# Altium footprint library MainShunt.PcbLib: 17 footprints (part 1 of 2)
Each footprint in its own frame and in the unit in brackets; x right, y up, seen from the top. Pads: shape width x height; smd on the part's side, far side on the other; paste and mask are expansions set on the pad; w line width, h text height; cw(c..) or ccw(c..) is an arc to the next point about the centre after c.
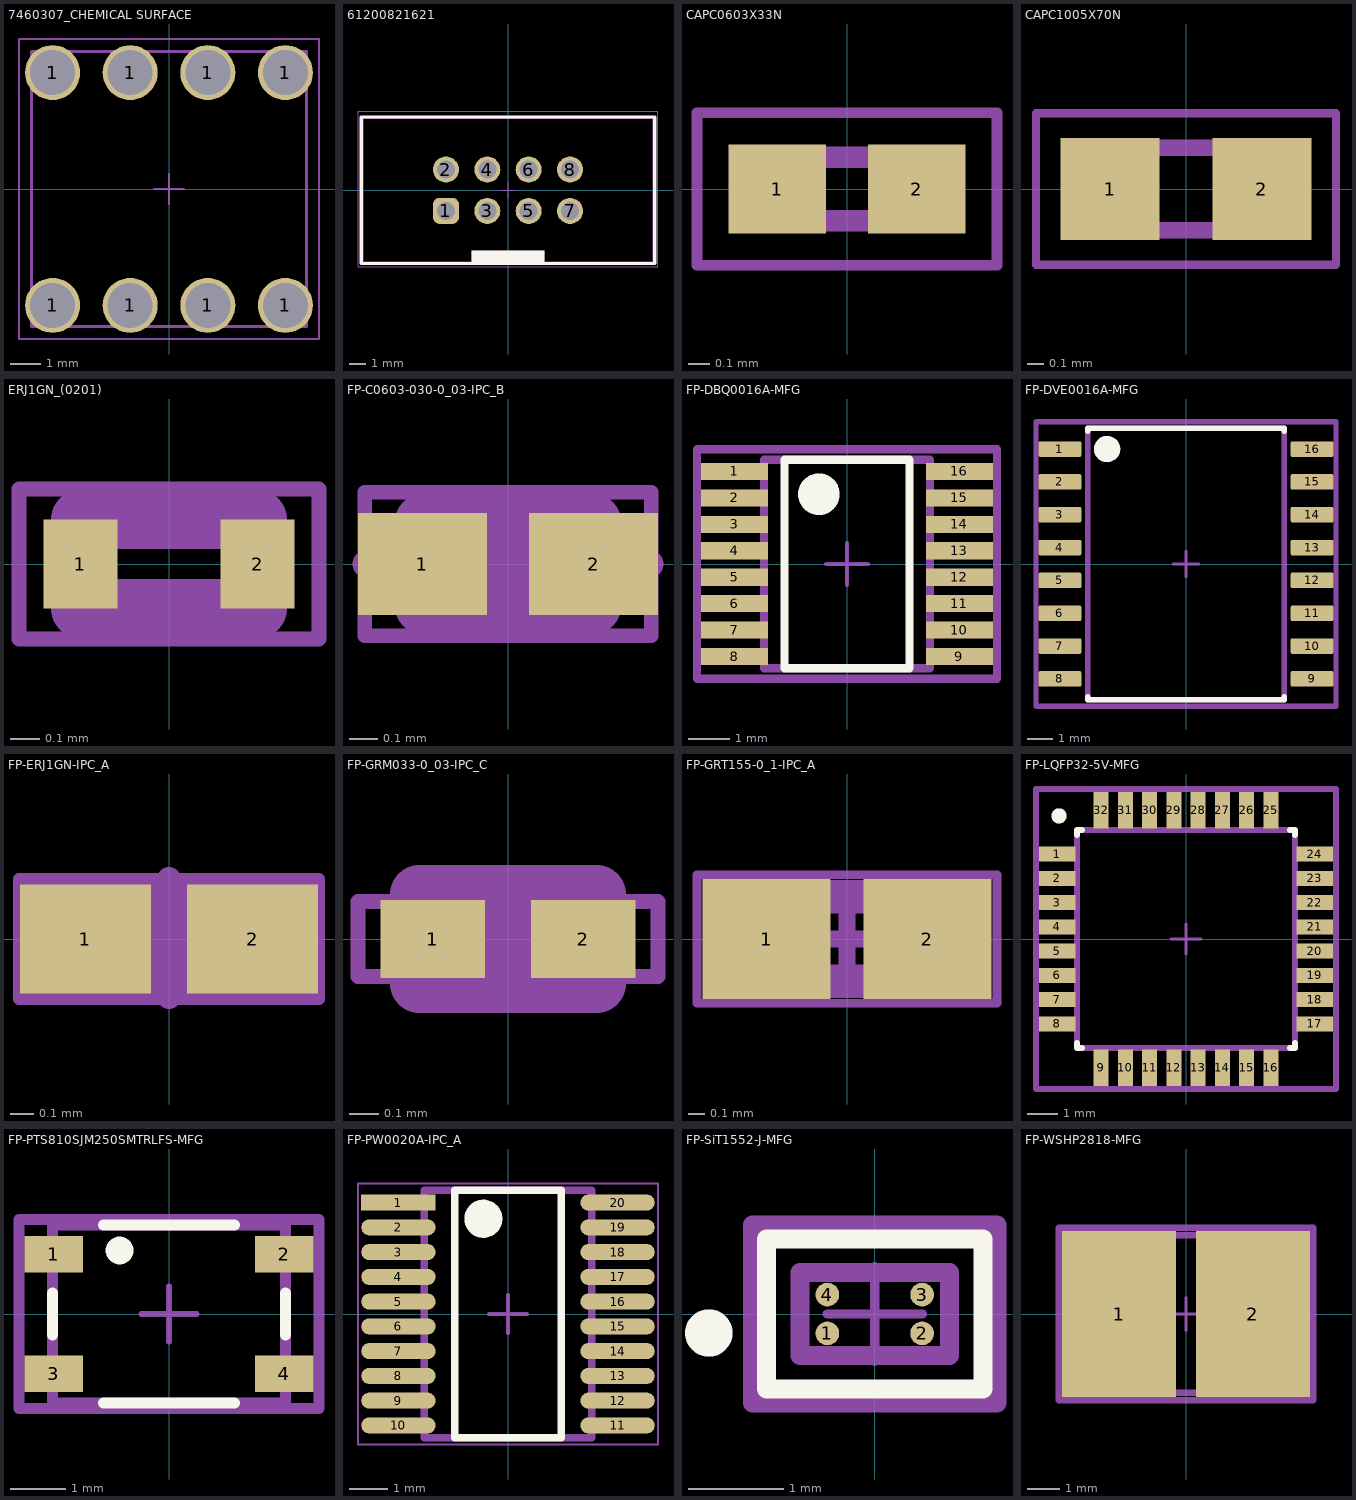
[diagram p0: the footprints below, top view; thin cyan lines are the x and y axes]

## 7460307_CHEMICAL SURFACE [mm] "WP-BUTR Bushes with two Rows Pin-Plate, M4, blind thr 6mm"
height 7
pads (8):
  round 1.8 hole 1.475: 1(-3.81,-3.81) 1(-3.81,3.81) 1(-1.27,-3.81) 1(-1.27,3.81) 1(1.27,-3.81) 1(1.27,3.81) 1(3.81,-3.81) 1(3.81,3.81)
Top Designator:
  text ".Designator" at -7.498,-0.5 h1.5
Top Component Outline:
  lines w0.1: -4.5,-4.5 -4.5,4.5 4.5,4.5 4.5,-4.5 -4.5,-4.5
Top 3D Body:
  lines w0.1: -4.5,-4.5 -4.5,4.5 4.5,4.5 4.5,-4.5 -4.5,-4.5
Top Courtyard:
  lines w0.05: -0.5,0 0.5,0 ; 0,-0.5 0,0.5 ; -4.91,-4.91 4.91,-4.91 4.91,4.91 -4.91,4.91 -4.91,-4.91
3D body "7460307.stp": height 7, standoff -3.5, extent -4.5,-4.5 4.5,4.5

## 61200821621 [mm] "8 pins, straight, gold plating"
height 9.1
pads (8):
  rrect50% 1.6x1.6 hole 1.1: 1(-3.81,-1.27)
  round 1.6 hole 1.1: 2(-3.81,1.27) 3(-1.27,-1.27) 4(-1.27,1.27) 5(1.27,-1.27) 6(1.27,1.27) 7(3.81,-1.27) 8(3.81,1.27)
Top Overlay:
  rectangle: -2.25,-4.5 2.25,-3.7
  lines w0.2: -9.01,-4.5 -9.01,4.5 9.01,4.5 9.01,-4.5 -9.01,-4.5
Top Designator:
  text ".Designator" at -7.498,-0.5 h1.5
Top Component Outline:
  rectangle: -2.25,-4.425 2.25,-3.7
  lines w0.1: -8.91,-4.425 8.91,-4.425 8.91,4.425 -8.91,4.425 -8.91,-4.425
Top 3D Body:
  rectangle: -2.25,-4.425 2.25,-3.7
  lines w0.1: -8.91,-4.425 -8.91,4.425 8.91,4.425 8.91,-4.425 -8.91,-4.425
Top Courtyard:
  lines w0.05: -0.5,0 0.5,0 ; 0,-0.5 0,0.5 ; -9.21,-4.7 -9.21,4.85 9.21,4.85 9.21,-4.7 -9.21,-4.7
3D body "61200821621.stp": height 9.13, standoff -2.98, extent -8.91,-4.425 8.91,4.75

## CAPC0603X33N [mm]
height 2.95
pads (2):
  rect 0.46x0.42 smd: 1(-0.33,0) 2(0.33,0)
Top 3D Body:
  lines w0.1: -0.3,-0.15 -0.3,0.15 0.3,0.15 0.3,-0.15 -0.3,-0.15
Top Courtyard:
  lines w0.05: -0.71,-0.36 -0.71,0.36 0.71,0.36 0.71,-0.36 -0.71,-0.36
3D body "GRM033C81E104KE14D.stp": height 0.33, standoff 0, extent -0.3,-0.15 0.3,0.15

## CAPC1005X70N [mm]
height 2.95
pads (2):
  rect 0.6x0.62 smd: 1(-0.46,0) 2(0.46,0)
Top 3D Body:
  lines w0.1: -0.5,-0.25 -0.5,0.25 0.5,0.25 0.5,-0.25 -0.5,-0.25
Top Courtyard:
  lines w0.05: -0.91,-0.46 -0.91,0.46 0.91,0.46 0.91,-0.46 -0.91,-0.46
3D body "GRM155F51E104ZA01D.stp": height 0.5, standoff 0, extent -0.5,-0.25 0.5,0.25

## ERJ1GN_(0201) [mm]
height 2.95
pads (2):
  rect 0.25x0.3 smd: 1(-0.3,0) 2(0.3,0)
Top 3D Body:
  lines w0.2: -0.3,-0.15 0.3,-0.15 0.3,0.15 -0.3,0.15 -0.3,-0.15
Top Courtyard:
  lines w0.05: -0.508,-0.254 -0.508,0.254 0.508,0.254 0.508,-0.254 -0.508,-0.254
3D body "ERJ-1GNF1001C.stp": height 0.23, standoff 0, extent -0.3,-0.15 0.3,0.15

## FP-C0603-030-0_03-IPC_B [mm]
height 2.95
pads (2):
  rect 0.456x0.363 smd paste+0 mask+0: 1(-0.303,0) 2(0.303,0)
Top Assembly:
  lines w0.051: -0.508,-0.254 -0.508,0.254 0.508,0.254 0.508,-0.254 -0.508,-0.254
  text ".Designator" at 0,0.188 h1
Top 3D Body:
  lines w0.2: -0.3,-0.15 -0.3,0.15 0.3,0.15 0.3,-0.15 -0.3,-0.15
Top Courtyard:
  lines w0.051: -0.508,-0.254 -0.508,0.254 0.508,0.254 0.508,-0.254 -0.508,-0.254
Top Component Center:
  lines w0.1: -0.5,0 0.5,0 ; 0,-0.127 0,0.127
3D body "Cap_TDK_C0603X6S0G474M030BC_eec.STEP": height 0.25, standoff 0, extent -0.681,-0.331 0.681,0.331

## FP-DBQ0016A-MFG [mm]
height 2.95
pads (16):
  rect 1.6x0.41 smd paste+0 mask+0: 1(-2.7,2.222) 2(-2.7,1.587) 3(-2.7,0.953) 4(-2.7,0.318) 5(-2.7,-0.318) 6(-2.7,-0.953) 7(-2.7,-1.587) 8(-2.7,-2.222) 9(2.7,-2.222) 10(2.7,-1.587) 11(2.7,-0.953) 12(2.7,-0.318) 13(2.7,0.318) 14(2.7,0.953) 15(2.7,1.587) 16(2.7,2.222)
Top Overlay:
  circle w0.5: c-0.675,1.675 r0.25
  lines w0.2: -1.5,-2.5 1.5,-2.5 1.5,2.5 -1.5,2.5 -1.5,-2.5
Top Assembly:
  lines w0.2: -3.6,-2.752 3.6,-2.752 3.6,2.752 -3.6,2.752 -3.6,-2.752
  text ".Designator" at 0,0.188 h1
Top 3D Body:
  lines w0.2: -1.99,-2.5 1.99,-2.5 1.99,2.5 -1.99,2.5 -1.99,-2.5
Top Courtyard:
  lines w0.2: -3.6,-2.752 3.6,-2.752 3.6,2.752 -3.6,2.752 -3.6,-2.752
Top Component Center:
  lines w0.1: -0.5,0 0.5,0 ; 0,-0.5 0,0.5
3D body "IC_Texas_Instruments_ISO1212DBQR_eec.STEP": height 0.25, standoff 0, extent -3.6,-2.752 3.6,2.752

## FP-DVE0016A-MFG [mm]
height 2.95
pads (16):
  rrect17% 1.65x0.6 smd paste+0 mask+0: 1(-4.875,4.445) 2(-4.875,3.175) 3(-4.875,1.905) 4(-4.875,0.635) 5(-4.875,-0.635) 6(-4.875,-1.905) 7(-4.875,-3.175) 8(-4.875,-4.445) 9(4.875,-4.445) 10(4.875,-3.175) 11(4.875,-1.905) 12(4.875,-0.635) 13(4.875,0.635) 14(4.875,1.905) 15(4.875,3.175) 16(4.875,4.445)
Top Overlay:
  circle w0.508: c-3.048,4.445 r0.254
  lines w0.2: -3.8,-5.12 -3.8,-5.25 3.8,-5.25 3.8,-5.12 ; -3.8,5.12 -3.8,5.25 3.8,5.25 3.8,5.12
Top Assembly:
  lines w0.2: -5.8,-5.5 5.8,-5.5 5.8,5.5 -5.8,5.5 -5.8,-5.5
  text ".Designator" at 0,0.188 h1
Top 3D Body:
  lines w0.2: -3.8,-5.25 3.8,-5.25 3.8,5.25 -3.8,5.25 -3.8,-5.25
Top Courtyard:
  lines w0.2: -5.8,-5.5 5.8,-5.5 5.8,5.5 -5.8,5.5 -5.8,-5.5
Top Component Center:
  lines w0.1: -0.5,0 0.5,0 ; 0,-0.5 0,0.5
3D body "IC_Texas_Instruments_UCC12040DVER_eec.STEP": height 0.25, standoff 0, extent -5.8,-5.5 5.8,5.5

## FP-ERJ1GN-IPC_A [mm]
height 2.95
pads (2):
  rect 0.554x0.463 smd paste+0 mask+0: 1(-0.354,0) 2(0.354,0)
Top Assembly:
  lines w0.051: -0.635,-0.254 -0.635,0.254 0.635,0.254 0.635,-0.254 -0.635,-0.254
  text ".Designator" at 0,-0.001 h1
Top 3D Body:
  lines w0.2: -0.3,-0.15 -0.3,0.15 0.3,0.15 0.3,-0.15 -0.3,-0.15
Top Courtyard:
  lines w0.051: -0.635,-0.254 -0.635,0.254 0.635,0.254 0.635,-0.254 -0.635,-0.254
Top Component Center:
  lines w0.1: 0,0.127 0,-0.246 0,0.254 ; -0.5,0 0.5,0 -0.5,0
3D body "Res_Panasonic_Electronic_Components_ERJ-1GNF4872C_eec.STEP": height 0.25, standoff 0, extent -0.831,-0.431 0.831,0.431

## FP-GRM033-0_03-IPC_C [mm]
height 2.95
pads (2):
  rect 0.354x0.263 smd paste+0 mask+0: 1(-0.254,0) 2(0.254,0)
Top Assembly:
  lines w0.051: -0.508,-0.127 -0.508,0.127 0.508,0.127 0.508,-0.127 -0.508,-0.127
  text ".Designator" at 0,0.188 h1
Top 3D Body:
  lines w0.2: -0.3,-0.15 -0.3,0.15 0.3,0.15 0.3,-0.15 -0.3,-0.15
Top Courtyard:
  lines w0.051: -0.508,-0.127 -0.508,0.127 0.508,0.127 0.508,-0.127 -0.508,-0.127
Top Component Center:
  lines w0.1: -0.254,0 0.254,0 ; 0,-0.127 0,0.127
3D body "Cap_Murata_GRM0335C1HR30BA01D_eec.STEP": height 0.25, standoff 0, extent -0.531,-0.265 0.531,0.265

## FP-GRT155-0_1-IPC_A [mm]
height 2.95
pads (2):
  rect 0.76x0.712 smd paste+0 mask+0: 1(-0.476,0) 2(0.476,0)
Top Assembly:
  lines w0.051: -0.889,-0.381 -0.889,0.381 0.889,0.381 0.889,-0.381 -0.889,-0.381
  text ".Designator" at 0,0.188 h1
Top 3D Body:
  lines w0.2: -0.5,-0.25 -0.5,0.25 0.5,0.25 0.5,-0.25 -0.5,-0.25
Top Courtyard:
  lines w0.051: -0.889,-0.381 -0.889,0.381 0.889,0.381 0.889,-0.381 -0.889,-0.381
Top Component Center:
  lines w0.1: -0.5,0 0.5,0 ; 0,-0.254 0,0.254
3D body "Cap_Murata_GRT155R60J475ME13D_eec.STEP": height 0.25, standoff 0, extent -1.056,-0.556 1.056,0.556

## FP-LQFP32-5V-MFG [mm]
height 2.95
pads (32):
  rect 1.2x0.5 smd paste+0 mask+0: 1(-4.25,2.8) 2(-4.25,2) 3(-4.25,1.2) 4(-4.25,0.4) 5(-4.25,-0.4) 6(-4.25,-1.2) 7(-4.25,-2) 8(-4.25,-2.8) 17(4.25,-2.8) 18(4.25,-2) 19(4.25,-1.2) 20(4.25,-0.4) 21(4.25,0.4) 22(4.25,1.2) 23(4.25,2) 24(4.25,2.8)
  rect 0.5x1.2 smd paste+0 mask+0: 9(-2.8,-4.25) 10(-2,-4.25) 11(-1.2,-4.25) 12(-0.4,-4.25) 13(0.4,-4.25) 14(1.2,-4.25) 15(2,-4.25) 16(2.8,-4.25) 25(2.8,4.25) 26(2,4.25) 27(1.2,4.25) 28(0.4,4.25) 29(-0.4,4.25) 30(-1.2,4.25) 31(-2,4.25) 32(-2.8,4.25)
Top Overlay:
  circle w0.25: c-4.191,4.064 r0.125
  lines w0.2: -3.6,-3.425 -3.6,-3.6 -3.425,-3.6 ; -3.6,3.425 -3.6,3.6 -3.425,3.6 ; 3.425,-3.6 3.6,-3.6 3.6,-3.425 ; 3.425,3.6 3.6,3.6 3.6,3.425
Top Assembly:
  lines w0.2: -4.95,-4.95 -4.95,4.95 4.95,4.95 4.95,-4.95 -4.95,-4.95
  text ".Designator" at 0,0.188 h1
Top 3D Body:
  lines w0.2: -3.6,-3.6 -3.6,3.6 3.6,3.6 3.6,-3.6 -3.6,-3.6
Top Courtyard:
  lines w0.2: -4.95,-4.95 -4.95,4.95 4.95,4.95 4.95,-4.95 -4.95,-4.95
Top Component Center:
  lines w0.1: -0.5,0 0.5,0 ; 0,-0.5 0,0.5
3D body "IC_STMicroelectronics_STM32L010K4T6_eec.STEP": height 0.25, standoff 0, extent -4.95,-4.95 4.95,4.95

## FP-PTS810SJM250SMTRLFS-MFG [mm]
height 2.95
pads (4):
  rect 1.05x0.65 smd paste+0 mask+0: 1(-2.075,1.075) 2(2.075,1.075) 3(-2.075,-1.075) 4(2.075,-1.075)
Top Overlay:
  circle w0.25: c-0.889,1.143 r0.125
  lines w0.2: -2.1,-0.375 -2.1,0.375 ; -1.175,-1.6 1.175,-1.6 ; -1.175,1.6 1.175,1.6 ; 2.1,-0.375 2.1,0.375
Top Assembly:
  lines w0.2: -2.7,-1.7 2.7,-1.7 2.7,1.7 -2.7,1.7 -2.7,-1.7
  text ".Designator" at 0,0.188 h1
Top 3D Body:
  lines w0.2: -2.1,-1.6 2.1,-1.6 2.1,1.6 -2.1,1.6 -2.1,-1.6
Top Courtyard:
  lines w0.2: -2.7,-1.7 2.7,-1.7 2.7,1.7 -2.7,1.7 -2.7,-1.7
Top Component Center:
  lines w0.1: -0.5,0 0.5,0 ; 0,-0.5 0,0.5
3D body "Switch_C&K_Components_PTS810SJM250SMTRLFS_eec.STEP": height 0.25, standoff 0, extent -2.7,-1.7 2.7,1.7

## FP-PW0020A-IPC_A [mm]
pads (20):
  rect 1.955x0.421 smd paste+0 mask+0: 1(-2.875,2.925)
  rrect100% 1.955x0.421 smd paste+0 mask+0: 2(-2.875,2.275) 3(-2.875,1.625) 4(-2.875,0.975) 5(-2.875,0.325) 6(-2.875,-0.325) 7(-2.875,-0.975) 8(-2.875,-1.625) 9(-2.875,-2.275) 10(-2.875,-2.925) 11(2.875,-2.925) 12(2.875,-2.275) 13(2.875,-1.625) 14(2.875,-0.975) 15(2.875,-0.325) 16(2.875,0.325) 17(2.875,0.975) 18(2.875,1.625) 19(2.875,2.275) 20(2.875,2.925)
Top Overlay:
  circle w0.5: c-0.648,2.5 r0.25
  lines w0.2: -1.398,-3.25 -1.398,3.25 1.398,3.25 1.398,-3.25 -1.398,-3.25
Top Assembly:
  lines w0.051: -3.937,-3.429 3.937,-3.429 3.937,3.429 -3.937,3.429 -3.937,-3.429
  text ".Designator" at 0,0.188 h1
Top 3D Body:
  lines w0.2: -2.2,-3.25 -2.2,3.25 2.2,3.25 2.2,-3.25 -2.2,-3.25
Top Courtyard:
  lines w0.051: -3.937,-3.429 3.937,-3.429 3.937,3.429 -3.937,3.429 -3.937,-3.429
Top Component Center:
  lines w0.1: -0.5,0 0.5,0 ; 0,-0.5 0,0.5
3D body "IC_Texas_Instruments_CDCE906PW_eec.STEP": height 0.25, standoff 0, extent -4.353,-3.75 4.353,3.75

## FP-SiT1552-J-MFG [mm]
height 2.95
pads (4):
  round 0.25 smd paste+0 mask-1000: 1(-0.5,-0.205) 2(0.5,-0.205) 3(0.5,0.205) 4(-0.5,0.205)
Top Overlay:
  circle w0.25: c-1.75,-0.2 r0.125
  lines w0.2: -1.14,-0.79 1.14,-0.79 1.14,0.79 -1.14,0.79 -1.14,-0.79
Top Solder:
  circle w0.175: c-0.5,-0.205 r0.088
  circle w0.175: c0.5,-0.205 r0.088
  circle w0.175: c-0.5,0.205 r0.088
  circle w0.175: c0.5,0.205 r0.088
Top Assembly:
  lines w0.2: -1.29,-0.94 -1.29,0.94 1.29,0.94 1.29,-0.94 -1.29,-0.94
  text ".Designator" at 0,0.188 h1
Top 3D Body:
  lines w0.2: -0.79,-0.44 0.79,-0.44 0.79,0.44 -0.79,0.44 -0.79,-0.44
Top Courtyard:
  lines w0.2: -1.29,-0.94 -1.29,0.94 1.29,0.94 1.29,-0.94 -1.29,-0.94
Top Component Center:
  lines w0.1: -0.5,0 0.5,0 ; 0,-0.5 0,0.5
3D body "Crys_SiTime_SIT1552AI-JE-DCC-32_768S_eec.STEP": height 0.25, standoff 0, extent -1.29,-0.94 1.29,0.94

## FP-WSHP2818-MFG [mm]
pads (2):
  rect 3.5x5.1 smd paste+0 mask+0: 1(-2.055,0) 2(2.055,0)
Top Assembly:
  lines w0.2: -3.905,-2.65 3.905,-2.65 3.905,2.65 -3.905,2.65 -3.905,-2.65
  text ".Designator" at 0,0.188 h1
Top 3D Body:
  lines w0.2: -3.675,-2.425 3.675,-2.425 3.675,2.425 -3.675,2.425 -3.675,-2.425
Top Courtyard:
  lines w0.2: -3.905,-2.65 3.905,-2.65 3.905,2.65 -3.905,2.65 -3.905,-2.65
Top Component Center:
  lines w0.1: -0.5,0 0.5,0 ; 0,-0.5 0,0.5
3D body "Res_Vishay_WSHP28182L000FEB_eec.STEP": height 0.25, standoff 0, extent -3.905,-2.65 3.905,2.65